# Altium schematic symbol library Capacitors-0805.SchLib: 2 symbols
Pins are listed as number, name and electrical type; pins without a type are passive.

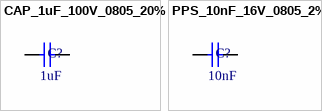
[diagram p0: symbols CAP_1uF_100V_0805_20% to PPS_10nF_16V_0805_2%]

## CAP_1uF_100V_0805_20%
designator C?, comment 1uF
CAP_1uF 100V 20% 0805 (2012 metric); Manufacturer: TDK; PartNumber: C2012X7S2A474M125AE; Mounting Technology: Surface Mount; Voltage: 100V; Package Description: 0805 (2012 Metric); Package Reference: 0805; Tolerance: 20%; Value: 1uF
footprint C0805[2012X120] (Chip Capacitor, Body 2.0x1.25mm)
pins: 1, 2

## PPS_10nF_16V_0805_2%
designator C?, comment value 10nF  (hidden comment: 1uF)
PPS_10nF 16V 2% 0805 (2012 metric); Manufacturer: Panasonic; PartNumber: ECH-U1C103GX5; Mounting Technology: Surface Mount; Voltage: 16V; Package Description: 0805 (2012 Metric); Package Reference: 0805; Tolerance: 2%
footprint C0805[2012X120] (Chip Capacitor, Body 2.0x1.25mm)
pins: 1, 2